# EAGLE library part 5-103908-6 (library con-amp-mte)
HEADER
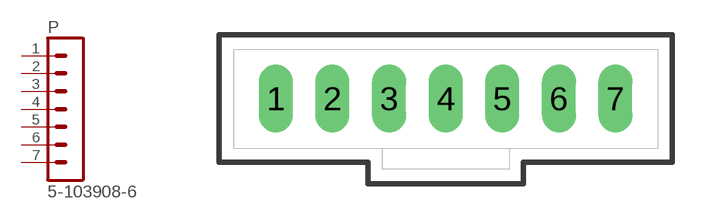
[diagram p4: symbol with the pads of 5-103908-6; footprint 5-103908-6]

Designator prefix P

## 5-103908-6  [5-103908-6]
1  1  pas
2  2  pas
3  3  pas
4  4  pas
5  5  pas
6  6  pas
7  7  pas

## Footprint 5-103908-6 (pad centres in mm)
HEADER vertical
drill 1.016 long: 1 -7.62,0; 2 -5.08,0; 3 -2.54,0; 4 0,0; 5 2.54,0; 6 5.08,0; 7 7.62,0